# Altium integrated library NSC Interface.IntLib: 1288 symbols (part 6 of 45)
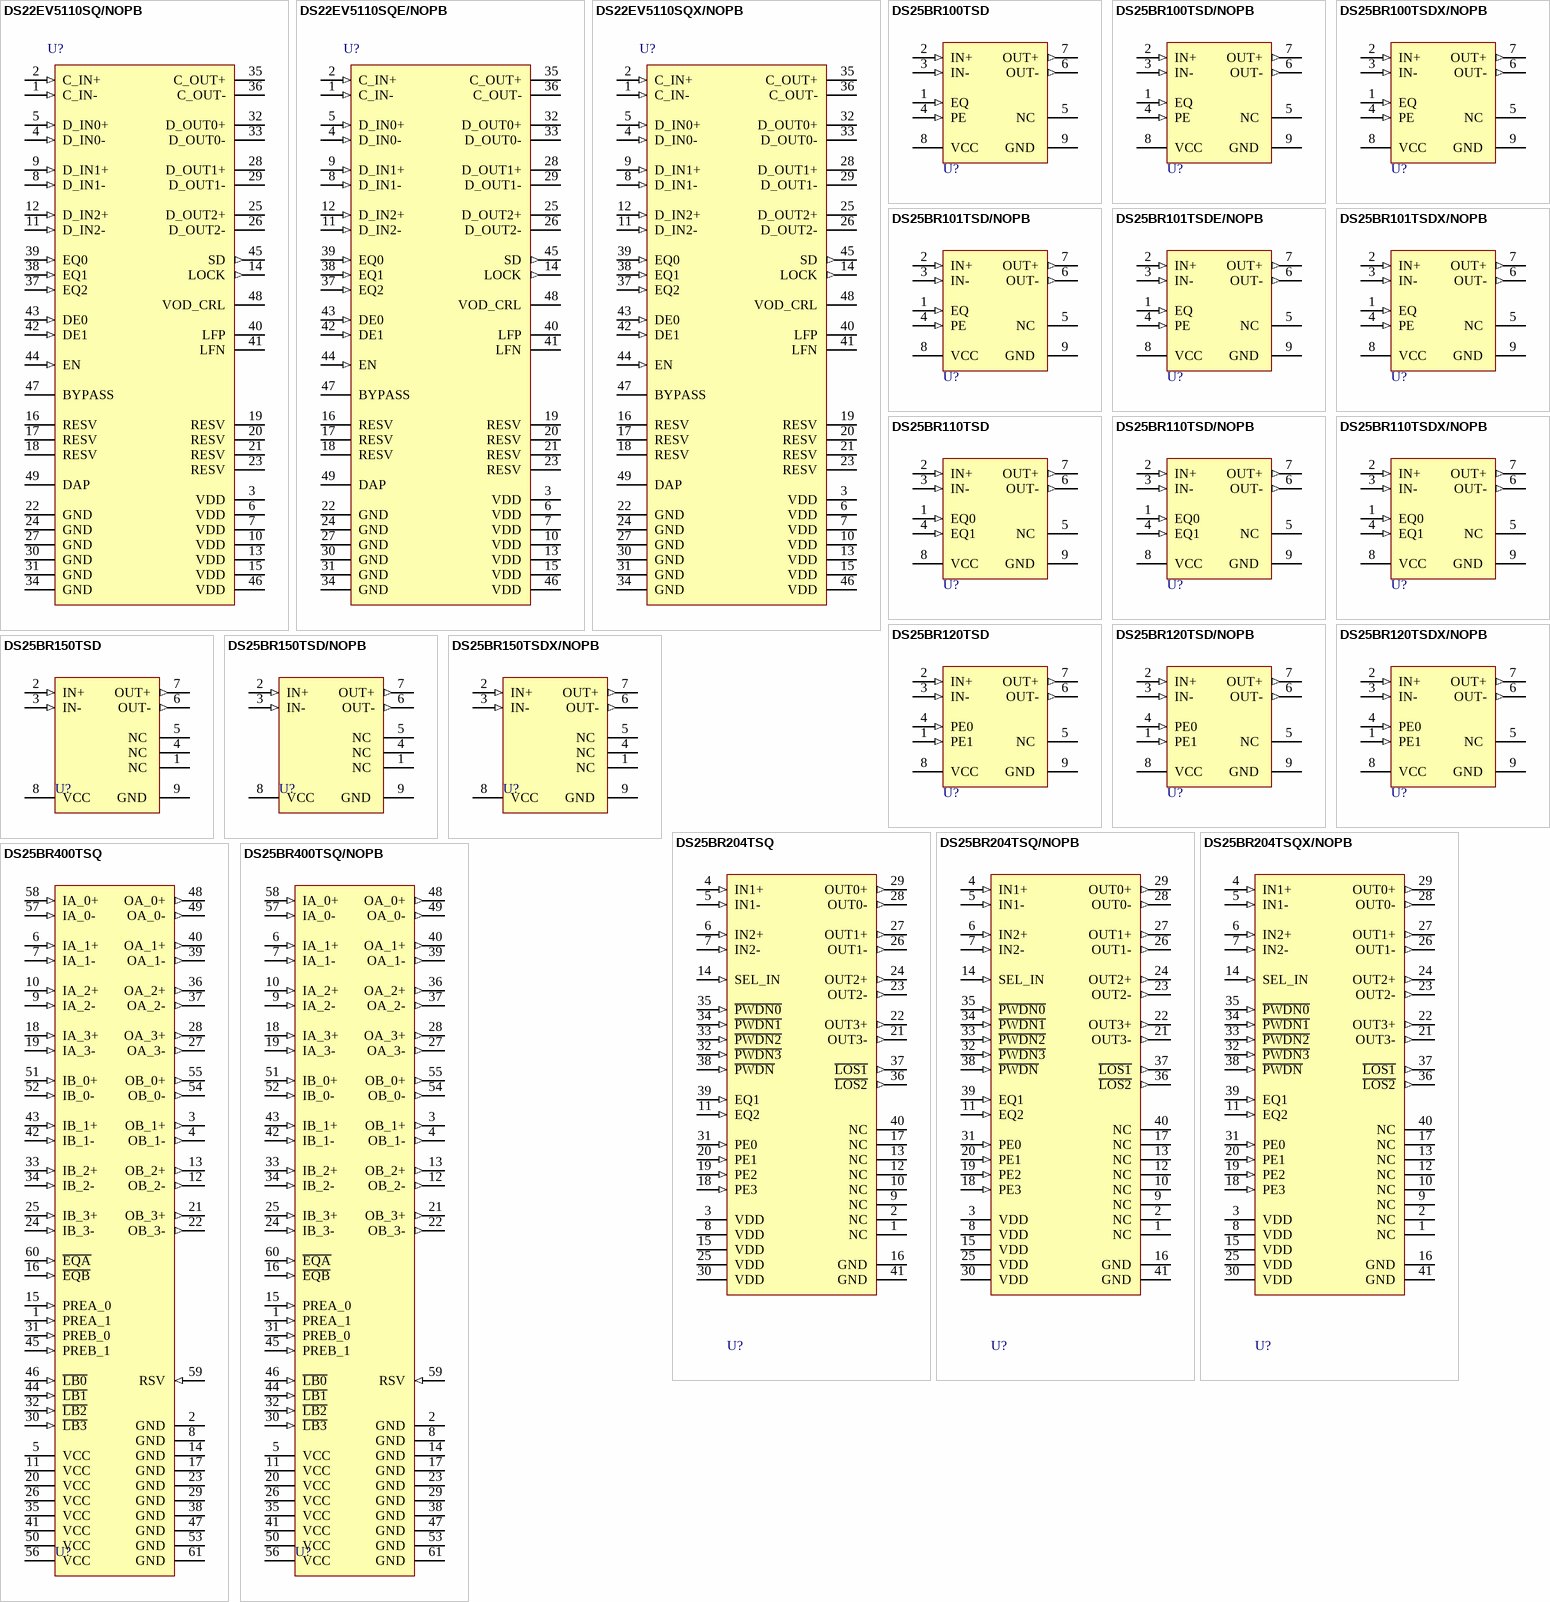
[diagram p117: symbols DS22EV5110SQ/NOPB to DS25BR400TSQ/NOPB]

## DS22EV5110SQX/NOPB
designator U?
DVI, HDMI Extended Reach Equalizer with Retimer and Output De-Emphasis, 48-pin LLP, Pb-Free; PartNumber: DS22EV5110SQX/NOPB; Manufacturer: National Semiconductor; PackageTopMarking: NS*UZXYTTE#*22EV5110; PowerWise: N; CompType: Interface IC; Published: 1-Mar-2010; DatasheetVersion: Feb-2010; PackageVersion: revB, May-2009; PackageReference: SQA48A; Publisher: Altium Limited; PackageDescription: LLP, Plastic, Quad, 7 x 7 x 0.8mm Body, 48 Lead, 0.5mm Pitch, No Pullback; Supplier 1: Digi-Key; Supplier Part Number 1: DS22EV5110SQX-ND; RoHS: Y; PinCount: 48; Code_JEDEC: MO-220-WKKD-2; ComponentLink1Description: DS22EV5110 Datasheet; ComponentLink1URL: http://www.national.com/ds/DS/DS22EV5110.pdf; ComponentLink2Description: DS22EV5110 Web Page; ComponentLink2URL: http://www.national.com/pf/DS/DS22EV5110.html; ComponentLink3Description: SQA48A Package Page; ComponentLink3URL: http://www.national.com/packaging/folders/sqa48a.html
footprint SQA48A (QFN, 48-Leads, Body 7x7mm, Pitch 0.5mm, NSC Recommended)
pins: 1 C_IN- (in), 2 C_IN+ (in), 3 VDD (power), 4 D_IN0- (in), 5 D_IN0+ (in), 6 VDD (power), 7 VDD (power), 8 D_IN1- (in), 9 D_IN1+ (in), 10 VDD (power), 11 D_IN2- (in), 12 D_IN2+ (in), 13 VDD (power), 14 LOCK (out), 15 VDD (power), 16 RESV, 17 RESV, 18 RESV, 19 RESV, 20 RESV, 21 RESV, 22 GND (power), 23 RESV, 24 GND (power), 25 D_OUT2+ (oc), 26 D_OUT2- (oc), 27 GND (power), 28 D_OUT1+ (oc), 29 D_OUT1- (oc), 30 GND (power), 31 GND (power), 32 D_OUT0+ (oc), 33 D_OUT0- (oc), 34 GND (power), 35 C_OUT+ (oc), 36 C_OUT- (oc), 37 EQ2 (in), 38 EQ1 (in), 39 EQ0 (in), 40 LFP, 41 LFN, 42 DE1 (in), 43 DE0 (in), 44 EN (in), 45 SD (out), 46 VDD (power), 47 BYPASS, 48 VOD_CRL, 49 DAP

## DS25BR100TSD
designator U?
3.125 Gbps LVDS Buffer with Transmit Pre-Emphasis and Receive Equalization, 8-pin LLP; PartNumber: DS25BR100TSD; Manufacturer: National Semiconductor; PackageTopMarking: ZXYTT*2R100; PowerWise: Y; CompType: Interface IC; Published: 4-Dec-2008; DatasheetVersion: Aug-2009; PackageVersion: revA, Aug-2003; PackageReference: SDA08A; Publisher: Altium Limited; PackageDescription: LLP, Plastic, Dual, 3 x 3 x 0.8mm Body, 8 Lead, 0.5mm Pitch, No Pullback; RoHS: Y; PinCount: 8; ComponentLink1Description: DS25BR100 Datasheet; ComponentLink1URL: http://www.national.com/ds/DS/DS25BR101.pdf; ComponentLink2Description: DS25BR100 Web Page; ComponentLink2URL: http://www.national.com/pf/DS/DS25BR100.html; ComponentLink3Description: SDA08A Package Page; ComponentLink3URL: http://www.national.com/packaging/folders/sda08a.html
footprint SDA08A (SON, 8-Leads, Body 3x3mm, Pitch 0.5mm, NSC Recommended)
pins: 1 EQ  (in), 2 IN+  (in), 3 IN- (in), 4 PE (in), 5 NC , 6 OUT- (out), 7 OUT+ (out), 8 VCC  (power), 9 GND  (power)

## DS25BR100TSD/NOPB
designator U?
3.125 Gbps LVDS Buffer with Transmit Pre-Emphasis and Receive Equalization, 8-pin LLP, Pb-Free; PartNumber: DS25BR100TSD/NOPB; Manufacturer: National Semiconductor; PackageTopMarking: ZXYTT*2R100; PowerWise: Y; CompType: Interface IC; Published: 1-Mar-2010; DatasheetVersion: Aug-2009; PackageVersion: revA, Aug-2003; PackageReference: SDA08A; Publisher: Altium Limited; PackageDescription: LLP, Plastic, Dual, 3 x 3 x 0.8mm Body, 8 Lead, 0.5mm Pitch, No Pullback; Supplier 1: Digi-Key; Supplier Part Number 1: DS25BR100TSDTR-ND; Supplier 2: Digi-Key; Supplier Part Number 2: DS25BR100TSDCT-ND; Supplier 3: Digi-Key; Supplier Part Number 3: DS25BR100TSDDKR-ND; Supplier 4: Farnell; Supplier Part Number 4: 1694585; RoHS: Y; PinCount: 8; ComponentLink1Description: DS25BR100 Datasheet; ComponentLink1URL: http://www.national.com/ds/DS/DS25BR100.pdf; ComponentLink2Description: DS25BR100 Web Page; ComponentLink2URL: http://www.national.com/pf/DS/DS25BR100.html; ComponentLink3Description: SDA08A Package Page; ComponentLink3URL: http://www.national.com/packaging/folders/sda08a.html
footprint SDA08A (SON, 8-Leads, Body 3x3mm, Pitch 0.5mm, NSC Recommended)
pins: 1 EQ  (in), 2 IN+  (in), 3 IN- (in), 4 PE (in), 5 NC , 6 OUT- (out), 7 OUT+ (out), 8 VCC  (power), 9 GND  (power)

## DS25BR100TSDX/NOPB
designator U?
3.125 Gbps LVDS Buffer with Transmit Pre-Emphasis and Receive Equalization, 8-pin LLP, Pb-Free; PartNumber: DS25BR100TSDX/NOPB; Manufacturer: National Semiconductor; PackageTopMarking: ZXYTT*2R100; PowerWise: Y; CompType: Interface IC; Published: 1-Mar-2010; DatasheetVersion: Aug-2009; PackageVersion: revA, Aug-2003; PackageReference: SDA08A; Publisher: Altium Limited; PackageDescription: LLP, Plastic, Dual, 3 x 3 x 0.8mm Body, 8 Lead, 0.5mm Pitch, No Pullback; Supplier 1: Digi-Key; Supplier Part Number 1: DS25BR100TSDX-ND; RoHS: Y; PinCount: 8; ComponentLink1Description: DS25BR100 Datasheet; ComponentLink1URL: http://www.national.com/ds/DS/DS25BR100.pdf; ComponentLink2Description: DS25BR100 Web Page; ComponentLink2URL: http://www.national.com/pf/DS/DS25BR100.html; ComponentLink3Description: SDA08A Package Page; ComponentLink3URL: http://www.national.com/packaging/folders/sda08a.html
footprint SDA08A (SON, 8-Leads, Body 3x3mm, Pitch 0.5mm, NSC Recommended)
pins: 1 EQ  (in), 2 IN+  (in), 3 IN- (in), 4 PE (in), 5 NC , 6 OUT- (out), 7 OUT+ (out), 8 VCC  (power), 9 GND  (power)

## DS25BR101TSD/NOPB
designator U?
3.125 Gbps LVDS Buffer with Transmit Pre-Emphasis and Receive Equalization, 8-pin LLP, Pb-Free; PartNumber: DS25BR101TSD/NOPB; Manufacturer: National Semiconductor; PackageTopMarking: ZXYTT*2R101; PowerWise: Y; CompType: Interface IC; Published: 1-Mar-2010; DatasheetVersion: Aug-2009; PackageVersion: revA, Aug-2003; PackageReference: SDA08A; Publisher: Altium Limited; PackageDescription: LLP, Plastic, Dual, 3 x 3 x 0.8mm Body, 8 Lead, 0.5mm Pitch, No Pullback; Supplier 1: Digi-Key; Supplier Part Number 1: DS25BR101TSD/NOPB-ND; RoHS: Y; PinCount: 8; ComponentLink1Description: DS25BR101 Datasheet; ComponentLink1URL: http://www.national.com/ds/DS/DS25BR101.pdf; ComponentLink2Description: DS25BR101 Web Page; ComponentLink2URL: http://www.national.com/pf/DS/DS25BR101.html; ComponentLink3Description: SDA08A Package Page; ComponentLink3URL: http://www.national.com/packaging/folders/sda08a.html
footprint SDA08A (SON, 8-Leads, Body 3x3mm, Pitch 0.5mm, NSC Recommended)
pins: 1 EQ  (in), 2 IN+  (in), 3 IN- (in), 4 PE (in), 5 NC , 6 OUT- (out), 7 OUT+ (out), 8 VCC  (power), 9 GND  (power)

## DS25BR101TSDE/NOPB
designator U?
3.125 Gbps LVDS Buffer with Transmit Pre-Emphasis and Receive Equalization, 8-pin LLP, Pb-Free; PartNumber: DS25BR101TSDE/NOPB; Manufacturer: National Semiconductor; PackageTopMarking: ZXYTT*2R101; PowerWise: Y; CompType: Interface IC; Published: 1-Mar-2010; DatasheetVersion: Aug-2009; PackageVersion: revA, Aug-2003; PackageReference: SDA08A; Publisher: Altium Limited; PackageDescription: LLP, Plastic, Dual, 3 x 3 x 0.8mm Body, 8 Lead, 0.5mm Pitch, No Pullback; Supplier 1: Digi-Key; Supplier Part Number 1: DS25BR101TSDETR-ND; Supplier 2: Digi-Key; Supplier Part Number 2: DS25BR101TSDECT-ND; Supplier 3: Digi-Key; Supplier Part Number 3: DS25BR101TSDEDKR-ND; RoHS: Y; PinCount: 8; ComponentLink1Description: DS25BR101 Datasheet; ComponentLink1URL: http://www.national.com/ds/DS/DS25BR101.pdf; ComponentLink2Description: DS25BR101 Web Page; ComponentLink2URL: http://www.national.com/pf/DS/DS25BR101.html; ComponentLink3Description: SDA08A Package Page; ComponentLink3URL: http://www.national.com/packaging/folders/sda08a.html
footprint SDA08A (SON, 8-Leads, Body 3x3mm, Pitch 0.5mm, NSC Recommended)
pins: 1 EQ  (in), 2 IN+  (in), 3 IN- (in), 4 PE (in), 5 NC , 6 OUT- (out), 7 OUT+ (out), 8 VCC  (power), 9 GND  (power)

## DS25BR101TSDX/NOPB
designator U?
3.125 Gbps LVDS Buffer with Transmit Pre-Emphasis and Receive Equalization, 8-pin LLP, Pb-Free; PartNumber: DS25BR101TSDX/NOPB; Manufacturer: National Semiconductor; PackageTopMarking: ZXYTT*2R101; PowerWise: Y; CompType: Interface IC; Published: 1-Mar-2010; DatasheetVersion: Aug-2009; PackageVersion: revA, Aug-2003; PackageReference: SDA08A; Publisher: Altium Limited; PackageDescription: LLP, Plastic, Dual, 3 x 3 x 0.8mm Body, 8 Lead, 0.5mm Pitch, No Pullback; Supplier 1: Digi-Key; Supplier Part Number 1: DS25BR101TSDX/NOPB-ND; RoHS: Y; PinCount: 8; ComponentLink1Description: DS25BR101 Datasheet; ComponentLink1URL: http://www.national.com/ds/DS/DS25BR101.pdf; ComponentLink2Description: DS25BR101 Web Page; ComponentLink2URL: http://www.national.com/pf/DS/DS25BR101.html; ComponentLink3Description: SDA08A Package Page; ComponentLink3URL: http://www.national.com/packaging/folders/sda08a.html
footprint SDA08A (SON, 8-Leads, Body 3x3mm, Pitch 0.5mm, NSC Recommended)
pins: 1 EQ  (in), 2 IN+  (in), 3 IN- (in), 4 PE (in), 5 NC , 6 OUT- (out), 7 OUT+ (out), 8 VCC  (power), 9 GND  (power)

## DS25BR110TSD
designator U?
3.125 Gbps LVDS Buffer with Receive Equalization, 8-pin LLP; PartNumber: DS25BR110TSD; Manufacturer: National Semiconductor; PackageTopMarking: ZXYTT*2R110; PowerWise: Y; CompType: Interface IC; Published: 4-Dec-2008; DatasheetVersion: Nov-2007; PackageVersion: revA, Aug-2003; PackageReference: SDA08A; Publisher: Altium Limited; PackageDescription: LLP, Plastic, Dual, 3 x 3 x 0.8mm Body, 8 Lead, 0.5mm Pitch, No Pullback; RoHS: Y; PinCount: 8; ComponentLink1Description: DS25BR110 Datasheet; ComponentLink1URL: http://www.national.com/ds/DS/DS25BR110.pdf; ComponentLink2Description: DS25BR110 Web Page; ComponentLink2URL: http://www.national.com/pf/DS/DS25BR110.html; ComponentLink3Description: SDA08A Package Page; ComponentLink3URL: http://www.national.com/packaging/folders/sda08a.html
footprint SDA08A (SON, 8-Leads, Body 3x3mm, Pitch 0.5mm, NSC Recommended)
pins: 1 EQ0  (in), 2 IN+  (in), 3 IN- (in), 4 EQ1 (in), 5 NC , 6 OUT- (out), 7 OUT+ (out), 8 VCC  (power), 9 GND  (power)

## DS25BR110TSD/NOPB
designator U?
3.125 Gbps LVDS Buffer with Receive Equalization, 8-pin LLP, Pb-Free; PartNumber: DS25BR110TSD/NOPB; Manufacturer: National Semiconductor; PackageTopMarking: ZXYTT*2R110; PowerWise: Y; CompType: Interface IC; Published: 1-Mar-2010; DatasheetVersion: Nov-2007; PackageVersion: revA, Aug-2003; PackageReference: SDA08A; Publisher: Altium Limited; PackageDescription: LLP, Plastic, Dual, 3 x 3 x 0.8mm Body, 8 Lead, 0.5mm Pitch, No Pullback; Supplier 1: Digi-Key; Supplier Part Number 1: DS25BR110TSDTR-ND; Supplier 2: Digi-Key; Supplier Part Number 2: DS25BR110TSDCT-ND; Supplier 3: Digi-Key; Supplier Part Number 3: DS25BR110TSDDKR-ND; Supplier 4: Farnell; Supplier Part Number 4: 1685392; RoHS: Y; PinCount: 8; ComponentLink1Description: DS25BR110 Datasheet; ComponentLink1URL: http://www.national.com/ds/DS/DS25BR110.pdf; ComponentLink2Description: DS25BR110 Web Page; ComponentLink2URL: http://www.national.com/pf/DS/DS25BR110.html; ComponentLink3Description: SDA08A Package Page; ComponentLink3URL: http://www.national.com/packaging/folders/sda08a.html
footprint SDA08A (SON, 8-Leads, Body 3x3mm, Pitch 0.5mm, NSC Recommended)
pins: 1 EQ0  (in), 2 IN+  (in), 3 IN- (in), 4 EQ1 (in), 5 NC , 6 OUT- (out), 7 OUT+ (out), 8 VCC  (power), 9 GND  (power)

## DS25BR110TSDX/NOPB
designator U?
3.125 Gbps LVDS Buffer with Receive Equalization, 8-pin LLP, Pb-Free; PartNumber: DS25BR110TSDX/NOPB; Manufacturer: National Semiconductor; PackageTopMarking: ZXYTT*2R110; PowerWise: Y; CompType: Interface IC; Published: 1-Mar-2010; DatasheetVersion: Nov-2007; PackageVersion: revA, Aug-2003; PackageReference: SDA08A; Publisher: Altium Limited; PackageDescription: LLP, Plastic, Dual, 3 x 3 x 0.8mm Body, 8 Lead, 0.5mm Pitch, No Pullback; Supplier 1: Digi-Key; Supplier Part Number 1: DS25BR110TSDX-ND; RoHS: Y; PinCount: 8; ComponentLink1Description: DS25BR110 Datasheet; ComponentLink1URL: http://www.national.com/ds/DS/DS25BR110.pdf; ComponentLink2Description: DS25BR110 Web Page; ComponentLink2URL: http://www.national.com/pf/DS/DS25BR110.html; ComponentLink3Description: SDA08A Package Page; ComponentLink3URL: http://www.national.com/packaging/folders/sda08a.html
footprint SDA08A (SON, 8-Leads, Body 3x3mm, Pitch 0.5mm, NSC Recommended)
pins: 1 EQ0  (in), 2 IN+  (in), 3 IN- (in), 4 EQ1 (in), 5 NC , 6 OUT- (out), 7 OUT+ (out), 8 VCC  (power), 9 GND  (power)

## DS25BR120TSD
designator U?
3.125 Gbps LVDS Buffer with Transmit Pre-Emphasis, 8-pin LLP; PartNumber: DS25BR120TSD; Manufacturer: National Semiconductor; PackageTopMarking: ZXYTT*2R120; PowerWise: Y; CompType: Interface IC; Published: 4-Dec-2008; DatasheetVersion: Nov-2007; PackageVersion: revA, Aug-2003; PackageReference: SDA08A; Publisher: Altium Limited; PackageDescription: LLP, Plastic, Dual, 3 x 3 x 0.8mm Body, 8 Lead, 0.5mm Pitch, No Pullback; RoHS: Y; PinCount: 8; ComponentLink1Description: DS25BR120 Datasheet; ComponentLink1URL: http://www.national.com/ds/DS/DS25BR120.pdf; ComponentLink2Description: DS25BR120 Web Page; ComponentLink2URL: http://www.national.com/pf/DS/DS25BR120.html; ComponentLink3Description: SDA08A Package Page; ComponentLink3URL: http://www.national.com/packaging/folders/sda08a.html
footprint SDA08A (SON, 8-Leads, Body 3x3mm, Pitch 0.5mm, NSC Recommended)
pins: 1 PE1  (in), 2 IN+  (in), 3 IN- (in), 4 PE0 (in), 5 NC , 6 OUT- (out), 7 OUT+ (out), 8 VCC  (power), 9 GND  (power)

## DS25BR120TSD/NOPB
designator U?
3.125 Gbps LVDS Buffer with Transmit Pre-Emphasis, 8-pin LLP, Pb-Free; PartNumber: DS25BR120TSD/NOPB; Manufacturer: National Semiconductor; PackageTopMarking: ZXYTT*2R120; PowerWise: Y; CompType: Interface IC; Published: 1-Mar-2010; DatasheetVersion: Nov-2007; PackageVersion: revA, Aug-2003; PackageReference: SDA08A; Publisher: Altium Limited; PackageDescription: LLP, Plastic, Dual, 3 x 3 x 0.8mm Body, 8 Lead, 0.5mm Pitch, No Pullback; Supplier 1: Digi-Key; Supplier Part Number 1: DS25BR120TSDTR-ND; Supplier 2: Digi-Key; Supplier Part Number 2: DS25BR120TSDCT-ND; Supplier 3: Digi-Key; Supplier Part Number 3: DS25BR120TSDDKR-ND; Supplier 4: Farnell; Supplier Part Number 4: 1685393; RoHS: Y; PinCount: 8; ComponentLink1Description: DS25BR120 Datasheet; ComponentLink1URL: http://www.national.com/ds/DS/DS25BR120.pdf; ComponentLink2Description: DS25BR120 Web Page; ComponentLink2URL: http://www.national.com/pf/DS/DS25BR120.html; ComponentLink3Description: SDA08A Package Page; ComponentLink3URL: http://www.national.com/packaging/folders/sda08a.html
footprint SDA08A (SON, 8-Leads, Body 3x3mm, Pitch 0.5mm, NSC Recommended)
pins: 1 PE1  (in), 2 IN+  (in), 3 IN- (in), 4 PE0 (in), 5 NC , 6 OUT- (out), 7 OUT+ (out), 8 VCC  (power), 9 GND  (power)

## DS25BR120TSDX/NOPB
designator U?
3.125 Gbps LVDS Buffer with Transmit Pre-Emphasis, 8-pin LLP, Pb-Free; PartNumber: DS25BR120TSDX/NOPB; Manufacturer: National Semiconductor; PackageTopMarking: ZXYTT*2R120; PowerWise: Y; CompType: Interface IC; Published: 1-Mar-2010; DatasheetVersion: Nov-2007; PackageVersion: revA, Aug-2003; PackageReference: SDA08A; Publisher: Altium Limited; PackageDescription: LLP, Plastic, Dual, 3 x 3 x 0.8mm Body, 8 Lead, 0.5mm Pitch, No Pullback; Supplier 1: Digi-Key; Supplier Part Number 1: DS25BR120TSDX-ND; RoHS: Y; PinCount: 8; ComponentLink1Description: DS25BR120 Datasheet; ComponentLink1URL: http://www.national.com/ds/DS/DS25BR120.pdf; ComponentLink2Description: DS25BR120 Web Page; ComponentLink2URL: http://www.national.com/pf/DS/DS25BR120.html; ComponentLink3Description: SDA08A Package Page; ComponentLink3URL: http://www.national.com/packaging/folders/sda08a.html
footprint SDA08A (SON, 8-Leads, Body 3x3mm, Pitch 0.5mm, NSC Recommended)
pins: 1 PE1  (in), 2 IN+  (in), 3 IN- (in), 4 PE0 (in), 5 NC , 6 OUT- (out), 7 OUT+ (out), 8 VCC  (power), 9 GND  (power)

## DS25BR150TSD
designator U?
3.125 Gbps LVDS Buffer, 8-pin LLP; PartNumber: DS25BR150TSD; Manufacturer: National Semiconductor; PackageTopMarking: ZXYTT*2R150; PowerWise: Y; CompType: Interface IC; Published: 4-Dec-2008; DatasheetVersion: Nov-2007; PackageVersion: revA, Aug-2003; PackageReference: SDA08A; Publisher: Altium Limited; PackageDescription: LLP, Plastic, Dual, 3 x 3 x 0.8mm Body, 8 Lead, 0.5mm Pitch, No Pullback; Supplier 1: Farnell; Supplier Part Number 1: 1370037; RoHS: Y; PinCount: 8; ComponentLink1Description: DS25BR150 Datasheet; ComponentLink1URL: http://www.national.com/ds/DS/DS25BR150.pdf; ComponentLink2Description: DS25BR150 Web Page; ComponentLink2URL: http://www.national.com/pf/DS/DS25BR150.html; ComponentLink3Description: SDA08A Package Page; ComponentLink3URL: http://www.national.com/packaging/folders/sda08a.html
footprint SDA08A (SON, 8-Leads, Body 3x3mm, Pitch 0.5mm, NSC Recommended)
pins: 1 NC , 2 IN+  (in), 3 IN- (in), 4 NC , 5 NC , 6 OUT- (out), 7 OUT+ (out), 8 VCC  (power), 9 GND  (power)

## DS25BR150TSD/NOPB
designator U?
3.125 Gbps LVDS Buffer, 8-pin LLP, Pb-Free; PartNumber: DS25BR150TSD/NOPB; Manufacturer: National Semiconductor; PackageTopMarking: ZXYTT*2R150; PowerWise: Y; CompType: Interface IC; Published: 1-Mar-2010; DatasheetVersion: Nov-2007; PackageVersion: revA, Aug-2003; PackageReference: SDA08A; Publisher: Altium Limited; PackageDescription: LLP, Plastic, Dual, 3 x 3 x 0.8mm Body, 8 Lead, 0.5mm Pitch, No Pullback; Supplier 1: Digi-Key; Supplier Part Number 1: DS25BR150TSDTR-ND; Supplier 2: Digi-Key; Supplier Part Number 2: DS25BR150TSDCT-ND; Supplier 3: Digi-Key; Supplier Part Number 3: DS25BR150TSDDKR-ND; RoHS: Y; PinCount: 8; ComponentLink1Description: DS25BR150 Datasheet; ComponentLink1URL: http://www.national.com/ds/DS/DS25BR150.pdf; ComponentLink2Description: DS25BR150 Web Page; ComponentLink2URL: http://www.national.com/pf/DS/DS25BR150.html; ComponentLink3Description: SDA08A Package Page; ComponentLink3URL: http://www.national.com/packaging/folders/sda08a.html
footprint SDA08A (SON, 8-Leads, Body 3x3mm, Pitch 0.5mm, NSC Recommended)
pins: 1 NC , 2 IN+  (in), 3 IN- (in), 4 NC , 5 NC , 6 OUT- (out), 7 OUT+ (out), 8 VCC  (power), 9 GND  (power)

## DS25BR150TSDX/NOPB
designator U?
3.125 Gbps LVDS Buffer, 8-pin LLP, Pb-Free; PartNumber: DS25BR150TSDX/NOPB; Manufacturer: National Semiconductor; PackageTopMarking: ZXYTT*2R150; PowerWise: Y; CompType: Interface IC; Published: 1-Mar-2010; DatasheetVersion: Nov-2007; PackageVersion: revA, Aug-2003; PackageReference: SDA08A; Publisher: Altium Limited; PackageDescription: LLP, Plastic, Dual, 3 x 3 x 0.8mm Body, 8 Lead, 0.5mm Pitch, No Pullback; Supplier 1: Digi-Key; Supplier Part Number 1: DS25BR150TSDX-ND; RoHS: Y; PinCount: 8; ComponentLink1Description: DS25BR150 Datasheet; ComponentLink1URL: http://www.national.com/ds/DS/DS25BR150.pdf; ComponentLink2Description: DS25BR150 Web Page; ComponentLink2URL: http://www.national.com/pf/DS/DS25BR150.html; ComponentLink3Description: SDA08A Package Page; ComponentLink3URL: http://www.national.com/packaging/folders/sda08a.html
footprint SDA08A (SON, 8-Leads, Body 3x3mm, Pitch 0.5mm, NSC Recommended)
pins: 1 NC , 2 IN+  (in), 3 IN- (in), 4 NC , 5 NC , 6 OUT- (out), 7 OUT+ (out), 8 VCC  (power), 9 GND  (power)

## DS25BR204TSQ
designator U?
3.125 Gbps 1:4 LVDS Repeater with Transmit Pre-Emphasis and Receive Equalization, 40-pin LLP; PartNumber: DS25BR204TSQ; Manufacturer: National Semiconductor; PackageTopMarking: NS*UZXYTT*2BR204SQ; PowerWise: N; CompType: Interface IC; Published: 4-Dec-2008; DatasheetVersion: Jan-2008; PackageVersion: revB, Mar-2004; PackageReference: SQA40A; Publisher: Altium Limited; PackageDescription: LLP, Plastic, Quad, 6 x 6 x 0.8mm Body, 40 Lead, 0.5mm Pitch, No Pullback; Supplier 1: Farnell; Supplier Part Number 1: 1542529; RoHS: Y; PinCount: 40; ComponentLink1Description: DS25BR204 Datasheet; ComponentLink1URL: http://www.national.com/ds/DS/DS25BR204.pdf; ComponentLink2Description: DS25BR204 Web Page; ComponentLink2URL: http://www.national.com/pf/DS/DS25BR204.html; ComponentLink3Description: SQA40A Package Page; ComponentLink3URL: http://www.national.com/packaging/folders/sqa40a.html
footprint SQA40A (QFN, 40-Leads, Body 6x6mm, Pitch 0.5mm, NSC Recommended)
pins: 1 NC, 2 NC, 3 VDD (power), 4 IN1+ (in), 5 IN1- (in), 6 IN2+ (in), 7 IN2- (in), 8 VDD (power), 9 NC, 10 NC, 11 EQ2 (in), 12 NC, 13 NC, 14 SEL_IN (in), 15 VDD (power), 16 GND (power), 17 NC, 18 PE3 (in), 19 PE2 (in), 20 PE1 (in), 21 OUT3- (out), 22 OUT3+ (out), 23 OUT2- (out), 24 OUT2+ (out), 25 VDD (power), 26 OUT1- (out), 27 OUT1+ (out), 28 OUT0- (out), 29 OUT0+ (out), 30 VDD (power), 31 PE0 (in), 32 ~{PWDN3} (in), 33 ~{PWDN2} (in), 34 ~{PWDN1} (in), 35 ~{PWDN0} (in), 36 ~{LOS2} (out), 37 ~{LOS1} (out), 38 ~{PWDN} (in), 39 EQ1 (in), 40 NC, 41 GND (power)

## DS25BR204TSQ/NOPB
designator U?
3.125 Gbps 1:4 LVDS Repeater with Transmit Pre-Emphasis and Receive Equalization, 40-pin LLP, Pb-Free; PartNumber: DS25BR204TSQ/NOPB; Manufacturer: National Semiconductor; PackageTopMarking: NS*UZXYTTE#*2BR204SQ; PowerWise: N; CompType: Interface IC; Published: 1-Mar-2010; DatasheetVersion: Jan-2008; PackageVersion: revB, Mar-2004; PackageReference: SQA40A; Publisher: Altium Limited; PackageDescription: LLP, Plastic, Quad, 6 x 6 x 0.8mm Body, 40 Lead, 0.5mm Pitch, No Pullback; Supplier 1: Digi-Key; Supplier Part Number 1: DS25BR204TSQTR-ND; Supplier 2: Digi-Key; Supplier Part Number 2: DS25BR204TSQCT-ND; Supplier 3: Digi-Key; Supplier Part Number 3: DS25BR204TSQDKR-ND; RoHS: Y; PinCount: 40; ComponentLink1Description: DS25BR204 Datasheet; ComponentLink1URL: http://www.national.com/ds/DS/DS25BR204.pdf; ComponentLink2Description: DS25BR204 Web Page; ComponentLink2URL: http://www.national.com/pf/DS/DS25BR204.html; ComponentLink3Description: SQA40A Package Page; ComponentLink3URL: http://www.national.com/packaging/folders/sqa40a.html
footprint SQA40A (QFN, 40-Leads, Body 6x6mm, Pitch 0.5mm, NSC Recommended)
pins: 1 NC, 2 NC, 3 VDD (power), 4 IN1+ (in), 5 IN1- (in), 6 IN2+ (in), 7 IN2- (in), 8 VDD (power), 9 NC, 10 NC, 11 EQ2 (in), 12 NC, 13 NC, 14 SEL_IN (in), 15 VDD (power), 16 GND (power), 17 NC, 18 PE3 (in), 19 PE2 (in), 20 PE1 (in), 21 OUT3- (out), 22 OUT3+ (out), 23 OUT2- (out), 24 OUT2+ (out), 25 VDD (power), 26 OUT1- (out), 27 OUT1+ (out), 28 OUT0- (out), 29 OUT0+ (out), 30 VDD (power), 31 PE0 (in), 32 ~{PWDN3} (in), 33 ~{PWDN2} (in), 34 ~{PWDN1} (in), 35 ~{PWDN0} (in), 36 ~{LOS2} (out), 37 ~{LOS1} (out), 38 ~{PWDN} (in), 39 EQ1 (in), 40 NC, 41 GND (power)

## DS25BR204TSQX/NOPB
designator U?
3.125 Gbps 1:4 LVDS Repeater with Transmit Pre-Emphasis and Receive Equalization, 40-pin LLP, Pb-Free; PartNumber: DS25BR204TSQX/NOPB; Manufacturer: National Semiconductor; PackageTopMarking: NS*UZXYTTE#*2BR204SQ; PowerWise: N; CompType: Interface IC; Published: 1-Mar-2010; DatasheetVersion: Jan-2008; PackageVersion: revB, Mar-2004; PackageReference: SQA40A; Publisher: Altium Limited; PackageDescription: LLP, Plastic, Quad, 6 x 6 x 0.8mm Body, 40 Lead, 0.5mm Pitch, No Pullback; Supplier 1: Digi-Key; Supplier Part Number 1: DS25BR204TSQX-ND; RoHS: Y; PinCount: 40; ComponentLink1Description: DS25BR204 Datasheet; ComponentLink1URL: http://www.national.com/ds/DS/DS25BR204.pdf; ComponentLink2Description: DS25BR204 Web Page; ComponentLink2URL: http://www.national.com/pf/DS/DS25BR204.html; ComponentLink3Description: SQA40A Package Page; ComponentLink3URL: http://www.national.com/packaging/folders/sqa40a.html
footprint SQA40A (QFN, 40-Leads, Body 6x6mm, Pitch 0.5mm, NSC Recommended)
pins: 1 NC, 2 NC, 3 VDD (power), 4 IN1+ (in), 5 IN1- (in), 6 IN2+ (in), 7 IN2- (in), 8 VDD (power), 9 NC, 10 NC, 11 EQ2 (in), 12 NC, 13 NC, 14 SEL_IN (in), 15 VDD (power), 16 GND (power), 17 NC, 18 PE3 (in), 19 PE2 (in), 20 PE1 (in), 21 OUT3- (out), 22 OUT3+ (out), 23 OUT2- (out), 24 OUT2+ (out), 25 VDD (power), 26 OUT1- (out), 27 OUT1+ (out), 28 OUT0- (out), 29 OUT0+ (out), 30 VDD (power), 31 PE0 (in), 32 ~{PWDN3} (in), 33 ~{PWDN2} (in), 34 ~{PWDN1} (in), 35 ~{PWDN0} (in), 36 ~{LOS2} (out), 37 ~{LOS1} (out), 38 ~{PWDN} (in), 39 EQ1 (in), 40 NC, 41 GND (power)

## DS25BR400TSQ
designator U?
Quad 2.5 Gbps CML Transceiver withTransmit De-Emphasis and Receive Equalization, 60-pin LLP; PartNumber: DS25BR400TSQ; Manufacturer: National Semiconductor; PackageTopMarking: NS*UZXYTTE#*DS25BR400*TSQ; PowerWise: Y; CompType: Interface IC; Published: 4-Dec-2008; DatasheetVersion: Feb-2009; PackageVersion: revA, Jun-2005; PackageReference: SQA60A; Publisher: Altium Limited; PackageDescription: LLP, Quad, 9 x 9 x 0.8mm, 60 Lead, 0.5mm Pitch, No Pullback; RoHS: N; PinCount: 60; ComponentLink1Description: DS25BR400 Datasheet; ComponentLink1URL: http://www.national.com/ds/DS/DS25BR400.pdf; ComponentLink2Description: DS25BR400 Web Page; ComponentLink2URL: http://www.national.com/pf/DS/DS25BR400.html; ComponentLink3Description: SQA60A Package Page; ComponentLink3URL: http://www.national.com/packaging/folders/sqa60a.html
footprint SQA60A (QFN, 60-Leads, Body 9x9mm, Pitch 0.5mm, NSC Recommended)
pins: 1 PREA_1 (in), 2 GND (power), 3 OB_1+ (out), 4 OB_1- (out), 5 VCC (power), 6 IA_1+ (in), 7 IA_1- (in), 8 GND (power), 9 IA_2- (in), 10 IA_2+ (in), 11 VCC (power), 12 OB_2- (out), 13 OB_2+ (out), 14 GND (power), 15 PREA_0 (in), 16 ~{EQB} (in), 17 GND (power), 18 IA_3+ (in), 19 IA_3- (in), 20 VCC (power), 21 OB_3+ (out), 22 OB_3- (out), 23 GND (power), 24 IB_3- (in), 25 IB_3+ (in), 26 VCC (power), 27 OA_3- (out), 28 OA_3+ (out), 29 GND (power), 30 ~{LB3} (in), 31 PREB_0 (in), 32 ~{LB2} (in), 33 IB_2+ (in), 34 IB_2- (in), 35 VCC (power), 36 OA_2+ (out), 37 OA_2- (out), 38 GND (power), 39 OA_1- (out), 40 OA_1+ (out), 41 VCC (power), 42 IB_1- (in), 43 IB_1+ (in), 44 ~{LB1} (in), 45 PREB_1 (in), 46 ~{LB0} (in), 47 GND (power), 48 OA_0+ (out), 49 OA_0- (out), 50 VCC (power), 51 IB_0+ (in), 52 IB_0- (in), 53 GND (power), 54 OB_0- (out), 55 OB_0+ (out), 56 VCC (power), 57 IA_0- (in), 58 IA_0+ (in), 59 RSV (in), 60 ~{EQA} (in), 61 GND (power)

## DS25BR400TSQ/NOPB
designator U?
Quad 2.5 Gbps CML Transceiver withTransmit De-Emphasis and Receive Equalization, 60-pin LLP, Pb-Free; PartNumber: DS25BR400TSQ/NOPB; Manufacturer: National Semiconductor; PackageTopMarking: NS*UZXYTTE#*DS25BR400*TSQ; PowerWise: Y; CompType: Interface IC; Published: 1-Mar-2010; DatasheetVersion: Feb-2009; PackageVersion: revA, Jun-2005; PackageReference: SQA60A; Publisher: Altium Limited; PackageDescription: LLP, Quad, 9 x 9 x 0.8mm, 60 Lead, 0.5mm Pitch, No Pullback; Supplier 1: Digi-Key; Supplier Part Number 1: DS25BR400TSQTR-ND; Supplier 2: Digi-Key; Supplier Part Number 2: DS25BR400TSQCT-ND; Supplier 3: Digi-Key; Supplier Part Number 3: DS25BR400TSQDKR-ND; RoHS: Y; PinCount: 60; ComponentLink1Description: DS25BR400 Datasheet; ComponentLink1URL: http://www.national.com/ds/DS/DS25BR400.pdf; ComponentLink2Description: DS25BR400 Web Page; ComponentLink2URL: http://www.national.com/pf/DS/DS25BR400.html; ComponentLink3Description: SQA60A Package Page; ComponentLink3URL: http://www.national.com/packaging/folders/sqa60a.html
footprint SQA60A (QFN, 60-Leads, Body 9x9mm, Pitch 0.5mm, NSC Recommended)
pins: 1 PREA_1 (in), 2 GND (power), 3 OB_1+ (out), 4 OB_1- (out), 5 VCC (power), 6 IA_1+ (in), 7 IA_1- (in), 8 GND (power), 9 IA_2- (in), 10 IA_2+ (in), 11 VCC (power), 12 OB_2- (out), 13 OB_2+ (out), 14 GND (power), 15 PREA_0 (in), 16 ~{EQB} (in), 17 GND (power), 18 IA_3+ (in), 19 IA_3- (in), 20 VCC (power), 21 OB_3+ (out), 22 OB_3- (out), 23 GND (power), 24 IB_3- (in), 25 IB_3+ (in), 26 VCC (power), 27 OA_3- (out), 28 OA_3+ (out), 29 GND (power), 30 ~{LB3} (in), 31 PREB_0 (in), 32 ~{LB2} (in), 33 IB_2+ (in), 34 IB_2- (in), 35 VCC (power), 36 OA_2+ (out), 37 OA_2- (out), 38 GND (power), 39 OA_1- (out), 40 OA_1+ (out), 41 VCC (power), 42 IB_1- (in), 43 IB_1+ (in), 44 ~{LB1} (in), 45 PREB_1 (in), 46 ~{LB0} (in), 47 GND (power), 48 OA_0+ (out), 49 OA_0- (out), 50 VCC (power), 51 IB_0+ (in), 52 IB_0- (in), 53 GND (power), 54 OB_0- (out), 55 OB_0+ (out), 56 VCC (power), 57 IA_0- (in), 58 IA_0+ (in), 59 RSV (in), 60 ~{EQA} (in), 61 GND (power)

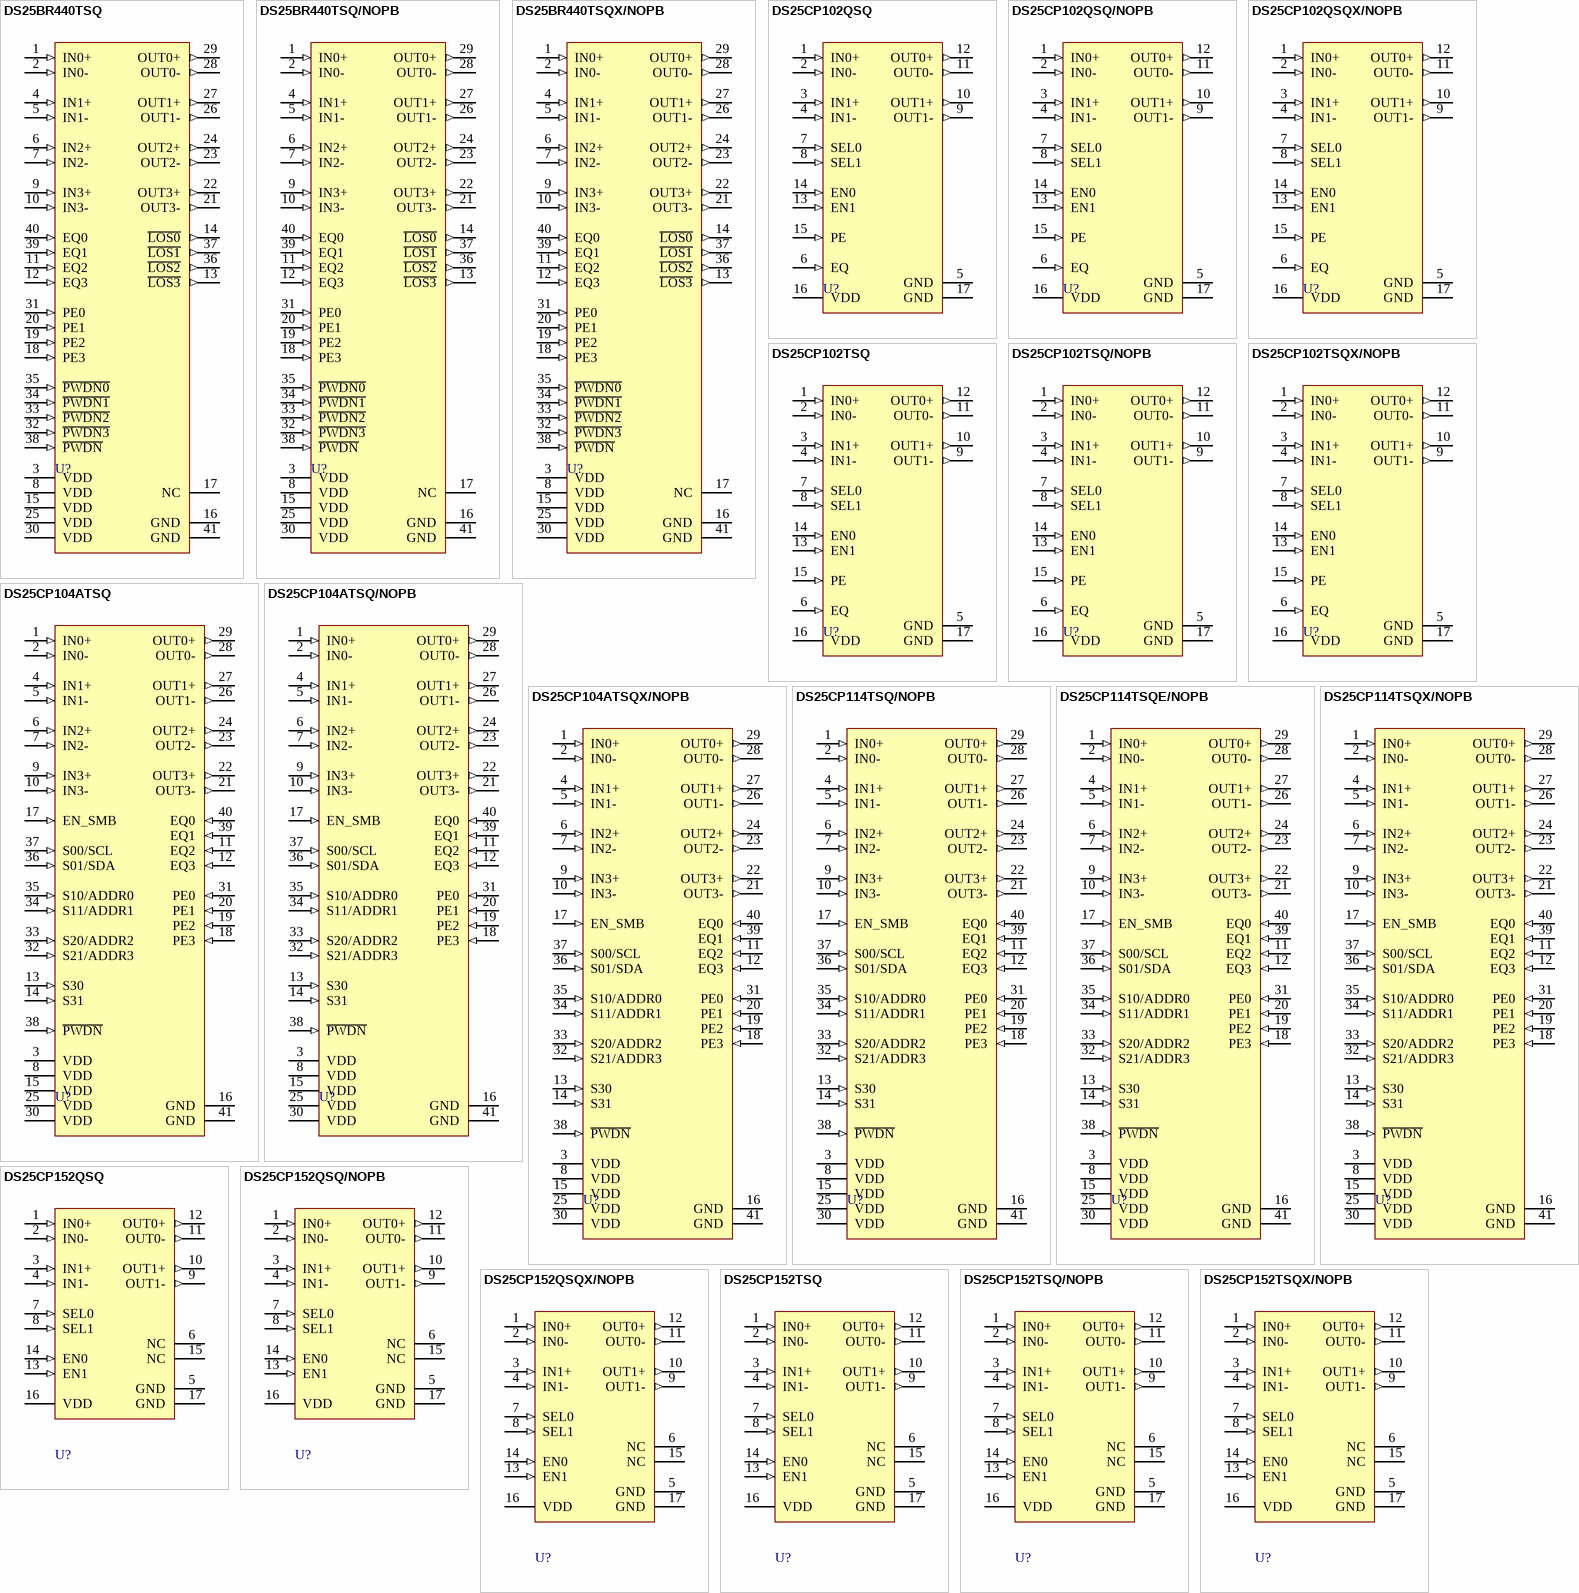
[diagram p17: symbols DS25BR440TSQ to DS25CP152TSQX/NOPB]

## DS25BR440TSQ
designator U?
3.125 Gbps Quad LVDS Buffer with Transmit Pre-Emphasis and Receive Equalization, 40-pin LLP; PartNumber: DS25BR440TSQ; Manufacturer: National Semiconductor; PackageTopMarking: NS*UZXYTT*2BR440SQ; PowerWise: N; CompType: Interface IC; Published: 4-Dec-2008; DatasheetVersion: Feb-2008; PackageVersion: revB, Mar-2004; PackageReference: SQA40A; Publisher: Altium Limited; PackageDescription: LLP, Plastic, Quad, 6 x 6 x 0.8mm Body, 40 Lead, 0.5mm Pitch, No Pullback; RoHS: Y; PinCount: 40; ComponentLink1Description: DS25BR440 Datasheet; ComponentLink1URL: http://www.national.com/ds/DS/DS25BR440.pdf; ComponentLink2Description: DS25BR440 Web Page; ComponentLink2URL: http://www.national.com/pf/DS/DS25BR440.html; ComponentLink3Description: SQA40A Package Page; ComponentLink3URL: http://www.national.com/packaging/folders/sqa40a.html
footprint SQA40A (QFN, 40-Leads, Body 6x6mm, Pitch 0.5mm, NSC Recommended)
pins: 1 IN0+ (in), 2 IN0- (in), 3 VDD (power), 4 IN1+ (in), 5 IN1- (in), 6 IN2+ (in), 7 IN2- (in), 8 VDD (power), 9 IN3+ (in), 10 IN3- (in), 11 EQ2 (in), 12 EQ3 (in), 13 ~{LOS3} (out), 14 ~{LOS0} (out), 15 VDD (power), 16 GND (power), 17 NC, 18 PE3 (in), 19 PE2 (in), 20 PE1 (in), 21 OUT3- (out), 22 OUT3+ (out), 23 OUT2- (out), 24 OUT2+ (out), 25 VDD (power), 26 OUT1- (out), 27 OUT1+ (out), 28 OUT0- (out), 29 OUT0+ (out), 30 VDD (power), 31 PE0 (in), 32 ~{PWDN3} (in), 33 ~{PWDN2} (in), 34 ~{PWDN1} (in), 35 ~{PWDN0} (in), 36 ~{LOS2} (out), 37 ~{LOS1} (out), 38 ~{PWDN} (in), 39 EQ1 (in), 40 EQ0 (in), 41 GND (power)

## DS25BR440TSQ/NOPB
designator U?
3.125 Gbps Quad LVDS Buffer with Transmit Pre-Emphasis and Receive Equalization, 40-pin LLP, Pb-Free; PartNumber: DS25BR440TSQ/NOPB; Manufacturer: National Semiconductor; PackageTopMarking: NS*UZXYTTE#*2BR440SQ; PowerWise: N; CompType: Interface IC; Published: 1-Mar-2010; DatasheetVersion: Feb-2008; PackageVersion: revB, Mar-2004; PackageReference: SQA40A; Publisher: Altium Limited; PackageDescription: LLP, Plastic, Quad, 6 x 6 x 0.8mm Body, 40 Lead, 0.5mm Pitch, No Pullback; Supplier 1: Digi-Key; Supplier Part Number 1: DS25BR440TSQTR-ND; Supplier 2: Digi-Key; Supplier Part Number 2: DS25BR440TSQCT-ND; Supplier 3: Digi-Key; Supplier Part Number 3: DS25BR440TSQDKR-ND; Supplier 4: Farnell; Supplier Part Number 4: 1685403; RoHS: Y; PinCount: 40; ComponentLink1Description: DS25BR440 Datasheet; ComponentLink1URL: http://www.national.com/ds/DS/DS25BR440.pdf; ComponentLink2Description: DS25BR440 Web Page; ComponentLink2URL: http://www.national.com/pf/DS/DS25BR440.html; ComponentLink3Description: SQA40A Package Page; ComponentLink3URL: http://www.national.com/packaging/folders/sqa40a.html
footprint SQA40A (QFN, 40-Leads, Body 6x6mm, Pitch 0.5mm, NSC Recommended)
pins: 1 IN0+ (in), 2 IN0- (in), 3 VDD (power), 4 IN1+ (in), 5 IN1- (in), 6 IN2+ (in), 7 IN2- (in), 8 VDD (power), 9 IN3+ (in), 10 IN3- (in), 11 EQ2 (in), 12 EQ3 (in), 13 ~{LOS3} (out), 14 ~{LOS0} (out), 15 VDD (power), 16 GND (power), 17 NC, 18 PE3 (in), 19 PE2 (in), 20 PE1 (in), 21 OUT3- (out), 22 OUT3+ (out), 23 OUT2- (out), 24 OUT2+ (out), 25 VDD (power), 26 OUT1- (out), 27 OUT1+ (out), 28 OUT0- (out), 29 OUT0+ (out), 30 VDD (power), 31 PE0 (in), 32 ~{PWDN3} (in), 33 ~{PWDN2} (in), 34 ~{PWDN1} (in), 35 ~{PWDN0} (in), 36 ~{LOS2} (out), 37 ~{LOS1} (out), 38 ~{PWDN} (in), 39 EQ1 (in), 40 EQ0 (in), 41 GND (power)

## DS25BR440TSQX/NOPB
designator U?
3.125 Gbps Quad LVDS Buffer with Transmit Pre-Emphasis and Receive Equalization, 40-pin LLP, Pb-Free; PartNumber: DS25BR440TSQX/NOPB; Manufacturer: National Semiconductor; PackageTopMarking: NS*UZXYTTE#*2BR440SQ; PowerWise: N; CompType: Interface IC; Published: 1-Mar-2010; DatasheetVersion: Feb-2008; PackageVersion: revB, Mar-2004; PackageReference: SQA40A; Publisher: Altium Limited; PackageDescription: LLP, Plastic, Quad, 6 x 6 x 0.8mm Body, 40 Lead, 0.5mm Pitch, No Pullback; Supplier 1: Digi-Key; Supplier Part Number 1: DS25BR440TSQX-ND; RoHS: Y; PinCount: 40; ComponentLink1Description: DS25BR440 Datasheet; ComponentLink1URL: http://www.national.com/ds/DS/DS25BR440.pdf; ComponentLink2Description: DS25BR440 Web Page; ComponentLink2URL: http://www.national.com/pf/DS/DS25BR440.html; ComponentLink3Description: SQA40A Package Page; ComponentLink3URL: http://www.national.com/packaging/folders/sqa40a.html
footprint SQA40A (QFN, 40-Leads, Body 6x6mm, Pitch 0.5mm, NSC Recommended)
pins: 1 IN0+ (in), 2 IN0- (in), 3 VDD (power), 4 IN1+ (in), 5 IN1- (in), 6 IN2+ (in), 7 IN2- (in), 8 VDD (power), 9 IN3+ (in), 10 IN3- (in), 11 EQ2 (in), 12 EQ3 (in), 13 ~{LOS3} (out), 14 ~{LOS0} (out), 15 VDD (power), 16 GND (power), 17 NC, 18 PE3 (in), 19 PE2 (in), 20 PE1 (in), 21 OUT3- (out), 22 OUT3+ (out), 23 OUT2- (out), 24 OUT2+ (out), 25 VDD (power), 26 OUT1- (out), 27 OUT1+ (out), 28 OUT0- (out), 29 OUT0+ (out), 30 VDD (power), 31 PE0 (in), 32 ~{PWDN3} (in), 33 ~{PWDN2} (in), 34 ~{PWDN1} (in), 35 ~{PWDN0} (in), 36 ~{LOS2} (out), 37 ~{LOS1} (out), 38 ~{PWDN} (in), 39 EQ1 (in), 40 EQ0 (in), 41 GND (power)

## DS25CP102QSQ
designator U?
Automotive 3.125 Gbps 2X2 LVDS Crosspoint Switch with Transmit Pre-Emphasis and Receive Equalization, 16-pin LLP; PartNumber: DS25CP102QSQ; Manufacturer: National Semiconductor; PackageTopMarking: NS*UZXYTT*2C102QS; PowerWise: Y; CompType: Interface IC; Published: 4-Dec-2008; DatasheetVersion: Jul-2008; PackageVersion: revA, Oct-2003; PackageReference: SQA16A; Publisher: Altium Limited; PackageDescription: LLP, Plastic, Quad, 4 x 4 x 0.8mm Body, 16 Lead, 0.5mm Pitch, No Pullback; RoHS: Y; PinCount: 16; ComponentLink1Description: DS25CP102Q Datasheet; ComponentLink1URL: http://www.national.com/ds/DS/DS25CP102Q.pdf; ComponentLink2Description: DS25CP102Q Web Page; ComponentLink2URL: http://www.national.com/pf/DS/DS25CP102Q.html; ComponentLink3Description: SQA16A Package Page; ComponentLink3URL: http://www.national.com/packaging/folders/sqa16a.html
footprint SQA16A (QFN, 16-Leads, Body 4x4mm, Pitch 0.5mm, NSC Recommended)
pins: 1 IN0+ (in), 2 IN0- (in), 3 IN1+ (in), 4 IN1- (in), 5 GND (power), 6 EQ (in), 7 SEL0 (in), 8 SEL1 (in), 9 OUT1- (out), 10 OUT1+ (out), 11 OUT0- (out), 12 OUT0+ (out), 13 EN1 (in), 14 EN0 (in), 15 PE (in), 16 VDD (power), 17 GND (power)

## DS25CP102QSQ/NOPB
designator U?
Automotive 3.125 Gbps 2X2 LVDS Crosspoint Switch with Transmit Pre-Emphasis and Receive Equalization, 16-pin LLP, Pb-Free; PartNumber: DS25CP102QSQ/NOPB; Manufacturer: National Semiconductor; PackageTopMarking: NS*UZXYTT*2C102QS; PowerWise: Y; CompType: Interface IC; Published: 1-Mar-2010; DatasheetVersion: Jul-2008; PackageVersion: revA, Oct-2003; PackageReference: SQA16A; Publisher: Altium Limited; PackageDescription: LLP, Plastic, Quad, 4 x 4 x 0.8mm Body, 16 Lead, 0.5mm Pitch, No Pullback; Supplier 1: Digi-Key; Supplier Part Number 1: DS25CP102QSQTR-ND; Supplier 2: Digi-Key; Supplier Part Number 2: DS25CP102QSQCT-ND; Supplier 3: Digi-Key; Supplier Part Number 3: DS25CP102QSQDKR-ND; RoHS: Y; PinCount: 16; ComponentLink1Description: DS25CP102Q Datasheet; ComponentLink1URL: http://www.national.com/ds/DS/DS25CP102Q.pdf; ComponentLink2Description: DS25CP102Q Web Page; ComponentLink2URL: http://www.national.com/pf/DS/DS25CP102Q.html; ComponentLink3Description: SQA16A Package Page; ComponentLink3URL: http://www.national.com/packaging/folders/sqa16a.html
footprint SQA16A (QFN, 16-Leads, Body 4x4mm, Pitch 0.5mm, NSC Recommended)
pins: 1 IN0+ (in), 2 IN0- (in), 3 IN1+ (in), 4 IN1- (in), 5 GND (power), 6 EQ (in), 7 SEL0 (in), 8 SEL1 (in), 9 OUT1- (out), 10 OUT1+ (out), 11 OUT0- (out), 12 OUT0+ (out), 13 EN1 (in), 14 EN0 (in), 15 PE (in), 16 VDD (power), 17 GND (power)

## DS25CP102QSQX/NOPB
designator U?
Automotive 3.125 Gbps 2X2 LVDS Crosspoint Switch with Transmit Pre-Emphasis and Receive Equalization, 16-pin LLP, Pb-Free; PartNumber: DS25CP102QSQX/NOPB; Manufacturer: National Semiconductor; PackageTopMarking: NS*UZXYTT*2C102QS; PowerWise: Y; CompType: Interface IC; Published: 1-Mar-2010; DatasheetVersion: Jul-2008; PackageVersion: revA, Oct-2003; PackageReference: SQA16A; Publisher: Altium Limited; PackageDescription: LLP, Plastic, Quad, 4 x 4 x 0.8mm Body, 16 Lead, 0.5mm Pitch, No Pullback; Supplier 1: Digi-Key; Supplier Part Number 1: DS25CP102QSQX-ND; RoHS: Y; PinCount: 16; ComponentLink1Description: DS25CP102Q Datasheet; ComponentLink1URL: http://www.national.com/ds/DS/DS25CP102Q.pdf; ComponentLink2Description: DS25CP102Q Web Page; ComponentLink2URL: http://www.national.com/pf/DS/DS25CP102Q.html; ComponentLink3Description: SQA16A Package Page; ComponentLink3URL: http://www.national.com/packaging/folders/sqa16a.html
footprint SQA16A (QFN, 16-Leads, Body 4x4mm, Pitch 0.5mm, NSC Recommended)
pins: 1 IN0+ (in), 2 IN0- (in), 3 IN1+ (in), 4 IN1- (in), 5 GND (power), 6 EQ (in), 7 SEL0 (in), 8 SEL1 (in), 9 OUT1- (out), 10 OUT1+ (out), 11 OUT0- (out), 12 OUT0+ (out), 13 EN1 (in), 14 EN0 (in), 15 PE (in), 16 VDD (power), 17 GND (power)

## DS25CP102TSQ
designator U?
3.125 Gbps 2X2 LVDS Crosspoint Switch with Transmit Pre-Emphasis and Receive Equalization, 16-pin LLP; PartNumber: DS25CP102TSQ; Manufacturer: National Semiconductor; PackageTopMarking: NS*UZXYTT*2C102SQ; PowerWise: Y; CompType: Interface IC; Published: 4-Dec-2008; DatasheetVersion: Mar-2009; PackageVersion: revA, Oct-2003; PackageReference: SQA16A; Publisher: Altium Limited; PackageDescription: LLP, Plastic, Quad, 4 x 4 x 0.8mm Body, 16 Lead, 0.5mm Pitch, No Pullback; RoHS: Y; PinCount: 16; ComponentLink1Description: DS25CP102 Datasheet; ComponentLink1URL: http://www.national.com/ds/DS/DS25CP102.pdf; ComponentLink2Description: DS25CP102 Web Page; ComponentLink2URL: http://www.national.com/pf/DS/DS25CP102.html; ComponentLink3Description: SQA16A Package Page; ComponentLink3URL: http://www.national.com/packaging/folders/sqa16a.html
footprint SQA16A (QFN, 16-Leads, Body 4x4mm, Pitch 0.5mm, NSC Recommended)
pins: 1 IN0+ (in), 2 IN0- (in), 3 IN1+ (in), 4 IN1- (in), 5 GND (power), 6 EQ (in), 7 SEL0 (in), 8 SEL1 (in), 9 OUT1- (out), 10 OUT1+ (out), 11 OUT0- (out), 12 OUT0+ (out), 13 EN1 (in), 14 EN0 (in), 15 PE (in), 16 VDD (power), 17 GND (power)

## DS25CP102TSQ/NOPB
designator U?
3.125 Gbps 2X2 LVDS Crosspoint Switch with Transmit Pre-Emphasis and Receive Equalization, 16-pin LLP, Pb-Free; PartNumber: DS25CP102TSQ/NOPB; Manufacturer: National Semiconductor; PackageTopMarking: NS*UZXYTT*2C102SQ; PowerWise: Y; CompType: Interface IC; Published: 1-Mar-2010; DatasheetVersion: Mar-2009; PackageVersion: revA, Oct-2003; PackageReference: SQA16A; Publisher: Altium Limited; PackageDescription: LLP, Plastic, Quad, 4 x 4 x 0.8mm Body, 16 Lead, 0.5mm Pitch, No Pullback; Supplier 1: Digi-Key; Supplier Part Number 1: DS25CP102TSQTR-ND; Supplier 2: Digi-Key; Supplier Part Number 2: DS25CP102TSQCT-ND; Supplier 3: Digi-Key; Supplier Part Number 3: DS25CP102TSQDKR-ND; Supplier 4: Farnell; Supplier Part Number 4: 1685353; RoHS: Y; PinCount: 16; ComponentLink1Description: DS25CP102 Datasheet; ComponentLink1URL: http://www.national.com/ds/DS/DS25CP102.pdf; ComponentLink2Description: DS25CP102 Web Page; ComponentLink2URL: http://www.national.com/pf/DS/DS25CP102.html; ComponentLink3Description: SQA16A Package Page; ComponentLink3URL: http://www.national.com/packaging/folders/sqa16a.html
footprint SQA16A (QFN, 16-Leads, Body 4x4mm, Pitch 0.5mm, NSC Recommended)
pins: 1 IN0+ (in), 2 IN0- (in), 3 IN1+ (in), 4 IN1- (in), 5 GND (power), 6 EQ (in), 7 SEL0 (in), 8 SEL1 (in), 9 OUT1- (out), 10 OUT1+ (out), 11 OUT0- (out), 12 OUT0+ (out), 13 EN1 (in), 14 EN0 (in), 15 PE (in), 16 VDD (power), 17 GND (power)

## DS25CP102TSQX/NOPB
designator U?
3.125 Gbps 2X2 LVDS Crosspoint Switch with Transmit Pre-Emphasis and Receive Equalization, 16-pin LLP, Pb-Free; PartNumber: DS25CP102TSQX/NOPB; Manufacturer: National Semiconductor; PackageTopMarking: NS*UZXYTT*2C102SQ; PowerWise: Y; CompType: Interface IC; Published: 1-Mar-2010; DatasheetVersion: Mar-2009; PackageVersion: revA, Oct-2003; PackageReference: SQA16A; Publisher: Altium Limited; PackageDescription: LLP, Plastic, Quad, 4 x 4 x 0.8mm Body, 16 Lead, 0.5mm Pitch, No Pullback; Supplier 1: Digi-Key; Supplier Part Number 1: DS25CP102TSQX-ND; RoHS: Y; PinCount: 16; ComponentLink1Description: DS25CP102 Datasheet; ComponentLink1URL: http://www.national.com/ds/DS/DS25CP102.pdf; ComponentLink2Description: DS25CP102 Web Page; ComponentLink2URL: http://www.national.com/pf/DS/DS25CP102.html; ComponentLink3Description: SQA16A Package Page; ComponentLink3URL: http://www.national.com/packaging/folders/sqa16a.html
footprint SQA16A (QFN, 16-Leads, Body 4x4mm, Pitch 0.5mm, NSC Recommended)
pins: 1 IN0+ (in), 2 IN0- (in), 3 IN1+ (in), 4 IN1- (in), 5 GND (power), 6 EQ (in), 7 SEL0 (in), 8 SEL1 (in), 9 OUT1- (out), 10 OUT1+ (out), 11 OUT0- (out), 12 OUT0+ (out), 13 EN1 (in), 14 EN0 (in), 15 PE (in), 16 VDD (power), 17 GND (power)

## DS25CP104ATSQ
designator U?
3.125 Gbps 4x4 LVDS Crosspoint Switch with Transmit Pre-Emphasis and Receive Equalization, 40-pin LLP; PartNumber: DS25CP104ATSQ; Manufacturer: National Semiconductor; PackageTopMarking: NS*UZXYTT*2CP104AS; PowerWise: Y; CompType: Interface IC; Published: 4-Dec-2008; DatasheetVersion: Aug-2008; PackageVersion: revB, Mar-2004; PackageReference: SQA40A; Publisher: Altium Limited; PackageDescription: LLP, Plastic, Quad, 6 x 6 x 0.8mm Body, 40 Lead, 0.5mm Pitch, No Pullback; Supplier 1: Farnell; Supplier Part Number 1: 1667413; RoHS: Y; PinCount: 40; ComponentLink1Description: DS25CP104A Datasheet; ComponentLink1URL: http://www.national.com/ds/DS/DS25CP104A.pdf; ComponentLink2Description: DS25CP104A Web Page; ComponentLink2URL: http://www.national.com/pf/DS/DS25CP104A.html; ComponentLink3Description: SQA40A Package Page; ComponentLink3URL: http://www.national.com/packaging/folders/sqa40a.html
footprint SQA40A (QFN, 40-Leads, Body 6x6mm, Pitch 0.5mm, NSC Recommended)
pins: 1 IN0+ (in), 2 IN0- (in), 3 VDD (power), 4 IN1+ (in), 5 IN1- (in), 6 IN2+ (in), 7 IN2- (in), 8 VDD (power), 9 IN3+ (in), 10 IN3- (in), 11 EQ2 (in), 12 EQ3 (in), 13 S30 (in), 14 S31 (in), 15 VDD (power), 16 GND (power), 17 EN_SMB (in), 18 PE3 (in), 19 PE2 (in), 20 PE1 (in), 21 OUT3- (out), 22 OUT3+ (out), 23 OUT2- (out), 24 OUT2+ (out), 25 VDD (power), 26 OUT1- (out), 27 OUT1+ (out), 28 OUT0- (out), 29 OUT0+ (out), 30 VDD (power), 31 PE0 (in), 32 S21/ADDR3 (in), 33 S20/ADDR2 (in), 34 S11/ADDR1 (in), 35 S10/ADDR0 (in), 36 S01/SDA (in), 37 S00/SCL (in), 38 ~{PWDN} (in), 39 EQ1 (in), 40 EQ0 (in), 41 GND (power)

## DS25CP104ATSQ/NOPB
designator U?
3.125 Gbps 4x4 LVDS Crosspoint Switch with Transmit Pre-Emphasis and Receive Equalization, 40-pin LLP, Pb-Free; PartNumber: DS25CP104ATSQ/NOPB; Manufacturer: National Semiconductor; PackageTopMarking: NS*UZXYTTE#*2CP104AS; PowerWise: Y; CompType: Interface IC; Published: 1-Mar-2010; DatasheetVersion: Aug-2008; PackageVersion: revB, Mar-2004; PackageReference: SQA40A; Publisher: Altium Limited; PackageDescription: LLP, Plastic, Quad, 6 x 6 x 0.8mm Body, 40 Lead, 0.5mm Pitch, No Pullback; Supplier 1: Digi-Key; Supplier Part Number 1: DS25CP104ATSQTR-ND; Supplier 2: Digi-Key; Supplier Part Number 2: DS25CP104ATSQCT-ND; Supplier 3: Digi-Key; Supplier Part Number 3: DS25CP104ATSQDKR-ND; Supplier 4: Farnell; Supplier Part Number 4: 1670575; RoHS: Y; PinCount: 40; ComponentLink1Description: DS25CP104A Datasheet; ComponentLink1URL: http://www.national.com/ds/DS/DS25CP104A.pdf; ComponentLink2Description: DS25CP104A Web Page; ComponentLink2URL: http://www.national.com/pf/DS/DS25CP104A.html; ComponentLink3Description: SQA40A Package Page; ComponentLink3URL: http://www.national.com/packaging/folders/sqa40a.html
footprint SQA40A (QFN, 40-Leads, Body 6x6mm, Pitch 0.5mm, NSC Recommended)
pins: 1 IN0+ (in), 2 IN0- (in), 3 VDD (power), 4 IN1+ (in), 5 IN1- (in), 6 IN2+ (in), 7 IN2- (in), 8 VDD (power), 9 IN3+ (in), 10 IN3- (in), 11 EQ2 (in), 12 EQ3 (in), 13 S30 (in), 14 S31 (in), 15 VDD (power), 16 GND (power), 17 EN_SMB (in), 18 PE3 (in), 19 PE2 (in), 20 PE1 (in), 21 OUT3- (out), 22 OUT3+ (out), 23 OUT2- (out), 24 OUT2+ (out), 25 VDD (power), 26 OUT1- (out), 27 OUT1+ (out), 28 OUT0- (out), 29 OUT0+ (out), 30 VDD (power), 31 PE0 (in), 32 S21/ADDR3 (in), 33 S20/ADDR2 (in), 34 S11/ADDR1 (in), 35 S10/ADDR0 (in), 36 S01/SDA (in), 37 S00/SCL (in), 38 ~{PWDN} (in), 39 EQ1 (in), 40 EQ0 (in), 41 GND (power)

## DS25CP104ATSQX/NOPB
designator U?
3.125 Gbps 4x4 LVDS Crosspoint Switch with Transmit Pre-Emphasis and Receive Equalization, 40-pin LLP, Pb-Free; PartNumber: DS25CP104ATSQX/NOPB; Manufacturer: National Semiconductor; PackageTopMarking: NS*UZXYTTE#*2CP104AS; PowerWise: Y; CompType: Interface IC; Published: 1-Mar-2010; DatasheetVersion: Aug-2008; PackageVersion: revB, Mar-2004; PackageReference: SQA40A; Publisher: Altium Limited; PackageDescription: LLP, Plastic, Quad, 6 x 6 x 0.8mm Body, 40 Lead, 0.5mm Pitch, No Pullback; Supplier 1: Digi-Key; Supplier Part Number 1: DS25CP104ATSQX-ND; RoHS: Y; PinCount: 40; ComponentLink1Description: DS25CP104A Datasheet; ComponentLink1URL: http://www.national.com/ds/DS/DS25CP104A.pdf; ComponentLink2Description: DS25CP104A Web Page; ComponentLink2URL: http://www.national.com/pf/DS/DS25CP104A.html; ComponentLink3Description: SQA40A Package Page; ComponentLink3URL: http://www.national.com/packaging/folders/sqa40a.html
footprint SQA40A (QFN, 40-Leads, Body 6x6mm, Pitch 0.5mm, NSC Recommended)
pins: 1 IN0+ (in), 2 IN0- (in), 3 VDD (power), 4 IN1+ (in), 5 IN1- (in), 6 IN2+ (in), 7 IN2- (in), 8 VDD (power), 9 IN3+ (in), 10 IN3- (in), 11 EQ2 (in), 12 EQ3 (in), 13 S30 (in), 14 S31 (in), 15 VDD (power), 16 GND (power), 17 EN_SMB (in), 18 PE3 (in), 19 PE2 (in), 20 PE1 (in), 21 OUT3- (out), 22 OUT3+ (out), 23 OUT2- (out), 24 OUT2+ (out), 25 VDD (power), 26 OUT1- (out), 27 OUT1+ (out), 28 OUT0- (out), 29 OUT0+ (out), 30 VDD (power), 31 PE0 (in), 32 S21/ADDR3 (in), 33 S20/ADDR2 (in), 34 S11/ADDR1 (in), 35 S10/ADDR0 (in), 36 S01/SDA (in), 37 S00/SCL (in), 38 ~{PWDN} (in), 39 EQ1 (in), 40 EQ0 (in), 41 GND (power)

## DS25CP114TSQ/NOPB
designator U?
3.125 Gbps 4x4 LVDS Crosspoint Switch with Transmit Pre-Emphasis and Receive Equalization, 40 pin LLP; PartNumber: DS25CP114TSQ/NOPB; Manufacturer: National Semiconductor; PackageTopMarking: NS*UZXYTTE#*2CP114SQ; PowerWise: Y; CompType: Interface IC; Published: 16-Nov-2010; DatasheetVersion: May-2009; PackageVersion: revB, Mar-2004; PackageReference: SQA40A; Publisher: Altium Limited; PackageDescription: LLP, Plastic, Quad, 6 x 6 x 0.8mm Body, 40 Lead, 0.5mm Pitch, No Pullback; Supplier 1: Digi-Key; Supplier Part Number 1: DS25CP114TSQ/NOPB-ND; RoHS: Y; PinCount: 40; ComponentLink1Description: DS25CP114 Datasheet; ComponentLink1URL: http://www.national.com/ds/DS/DS25CP114.pdf; ComponentLink2Description: DS25CP114 Web Page; ComponentLink2URL: http://www.national.com/pf/DS/DS25CP114.html; ComponentLink3Description: SQA40A Package Page; ComponentLink3URL: http://www.national.com/packaging/folders/sqa40a.html
footprint SQA40A (QFN, 40-Leads, Body 6x6mm, Pitch 0.5mm, NSC Recommended)
pins: 1 IN0+ (in), 2 IN0- (in), 3 VDD (power), 4 IN1+ (in), 5 IN1- (in), 6 IN2+ (in), 7 IN2- (in), 8 VDD (power), 9 IN3+ (in), 10 IN3- (in), 11 EQ2 (in), 12 EQ3 (in), 13 S30 (in), 14 S31 (in), 15 VDD (power), 16 GND (power), 17 EN_SMB (in), 18 PE3 (in), 19 PE2 (in), 20 PE1 (in), 21 OUT3- (out), 22 OUT3+ (out), 23 OUT2- (out), 24 OUT2+ (out), 25 VDD (power), 26 OUT1- (out), 27 OUT1+ (out), 28 OUT0- (out), 29 OUT0+ (out), 30 VDD (power), 31 PE0 (in), 32 S21/ADDR3 (in), 33 S20/ADDR2 (in), 34 S11/ADDR1 (in), 35 S10/ADDR0 (in), 36 S01/SDA (in), 37 S00/SCL (in), 38 ~{PWDN} (in), 39 EQ1 (in), 40 EQ0 (in), 41 GND (power)

## DS25CP114TSQE/NOPB
designator U?
3.125 Gbps 4x4 LVDS Crosspoint Switch with Transmit Pre-Emphasis and Receive Equalization, 40 pin LLP; PartNumber: DS25CP114TSQE/NOPB; Manufacturer: National Semiconductor; PackageTopMarking: NS*UZXYTTE#*2CP114SQ; PowerWise: Y; CompType: Interface IC; Published: 16-Nov-2010; DatasheetVersion: May-2009; PackageVersion: revB, Mar-2004; PackageReference: SQA40A; Publisher: Altium Limited; PackageDescription: LLP, Plastic, Quad, 6 x 6 x 0.8mm Body, 40 Lead, 0.5mm Pitch, No Pullback; Supplier 1: Digi-Key; Supplier Part Number 1: DS25CP114TSQETR-ND; Supplier 2: Digi-Key; Supplier Part Number 2: DS25CP114TSQECT-ND; Supplier 3: Digi-Key; Supplier Part Number 3: DS25CP114TSQEDKR-ND; RoHS: Y; PinCount: 40; ComponentLink1Description: DS25CP114 Datasheet; ComponentLink1URL: http://www.national.com/ds/DS/DS25CP114.pdf; ComponentLink2Description: DS25CP114 Web Page; ComponentLink2URL: http://www.national.com/pf/DS/DS25CP114.html; ComponentLink3Description: SQA40A Package Page; ComponentLink3URL: http://www.national.com/packaging/folders/sqa40a.html
footprint SQA40A (QFN, 40-Leads, Body 6x6mm, Pitch 0.5mm, NSC Recommended)
pins: 1 IN0+ (in), 2 IN0- (in), 3 VDD (power), 4 IN1+ (in), 5 IN1- (in), 6 IN2+ (in), 7 IN2- (in), 8 VDD (power), 9 IN3+ (in), 10 IN3- (in), 11 EQ2 (in), 12 EQ3 (in), 13 S30 (in), 14 S31 (in), 15 VDD (power), 16 GND (power), 17 EN_SMB (in), 18 PE3 (in), 19 PE2 (in), 20 PE1 (in), 21 OUT3- (out), 22 OUT3+ (out), 23 OUT2- (out), 24 OUT2+ (out), 25 VDD (power), 26 OUT1- (out), 27 OUT1+ (out), 28 OUT0- (out), 29 OUT0+ (out), 30 VDD (power), 31 PE0 (in), 32 S21/ADDR3 (in), 33 S20/ADDR2 (in), 34 S11/ADDR1 (in), 35 S10/ADDR0 (in), 36 S01/SDA (in), 37 S00/SCL (in), 38 ~{PWDN} (in), 39 EQ1 (in), 40 EQ0 (in), 41 GND (power)